# EAGLE library part 115Q-BCA0 (library 115Q-BCA0 Micro-SIM Socket)
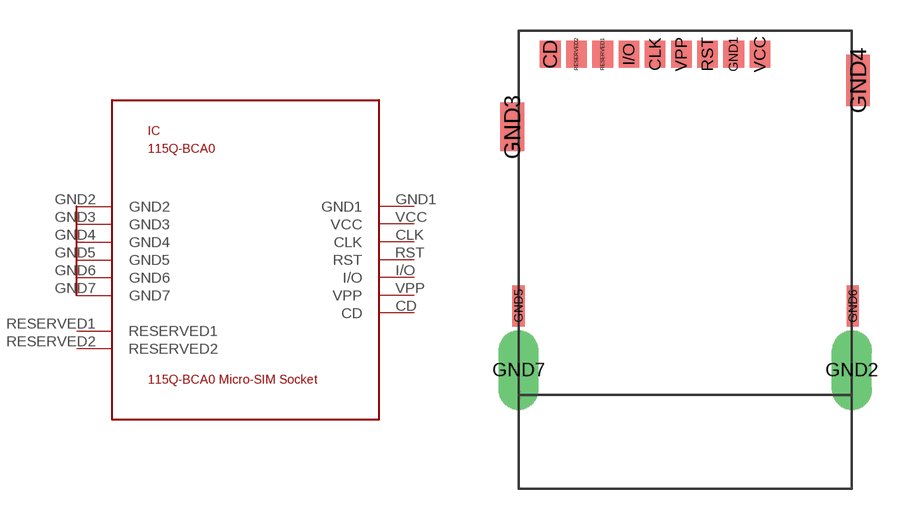
[diagram p0: symbol with the pads of 115Q-BCA0; footprint 115Q-BCA0]

Designator prefix IC

## 115Q-BCA0  [115Q-BCA0]
CD  CD
CLK  CLK
GND1  GND1  pwr
GND2  GND2  pwr
GND3  GND3  pwr
GND4  GND4  pwr
GND5  GND5  pwr
GND6  GND6  pwr
GND7  GND7  pwr
I/O  I/O
RESERVED1  RESERVED1  nc
RESERVED2  RESERVED2  nc
RST  RST
VCC  VCC  pwr
VPP  VPP

## Footprint 115Q-BCA0 (pad centres in mm)
smd 1 x 1.3: CD 1.54,-1.13; CLK 6.62,-1.13; GND1 10.43,-1.13; I/O 5.35,-1.13; RESERVED1 4.08,-1.13; RESERVED2 2.81,-1.13; RST 9.16,-1.13; VCC 11.7,-1.13; VPP 7.89,-1.13
drill 1.3 long: GND2 16.15,-16.45; GND7 0.01,-16.45
smd 1.15 x 2.35: GND3 -0.3,-4.65
smd 1.15 x 2.5: GND4 16.45,-2.4
smd 0.6 x 2: GND5 0,-13.34; GND6 16.2,-13.34